# EAGLE library part 9DOF (library GoatFinder)
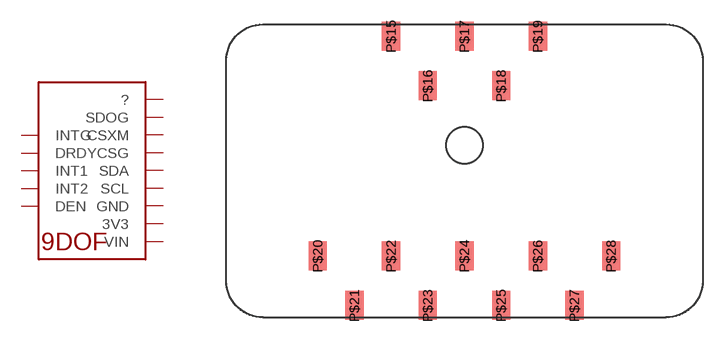
[diagram p3: symbol with the pads of 9DOF; footprint 9DOF]

Designator prefix -

## 9DOF  [9DOF]
P$15  DEN
P$16  INT2
P$17  INT1
P$18  DRDY
P$19  INTG
P$20  VIN
P$21  3V3
P$22  GND
P$23  SCL
P$24  SDA
P$25  CSG
P$26  CSXM
P$27  SDOG
P$28  ?

## Footprint 9DOF (pad centres in mm)
smd 1.27 x 2.03: P$15 -5.08,7.557; P$16 -2.54,4.127; P$17 0,7.557; P$18 2.54,4.127; P$19 5.08,7.557; P$20 -10.16,-7.683; P$21 -7.62,-11.113; P$22 -5.08,-7.683; P$23 -2.54,-11.113; P$24 0,-7.683; P$25 2.54,-11.113; P$26 5.08,-7.683; P$27 7.62,-11.113; P$28 10.16,-7.683